# Altium footprint library connector.PcbLib: 13 footprints
Each footprint in its own frame and in the unit in brackets; x right, y up, seen from the top. Pads: shape width x height; smd on the part's side, far side on the other; paste and mask are expansions set on the pad; w line width, h text height; cw(c..) or ccw(c..) is an arc to the next point about the centre after c.
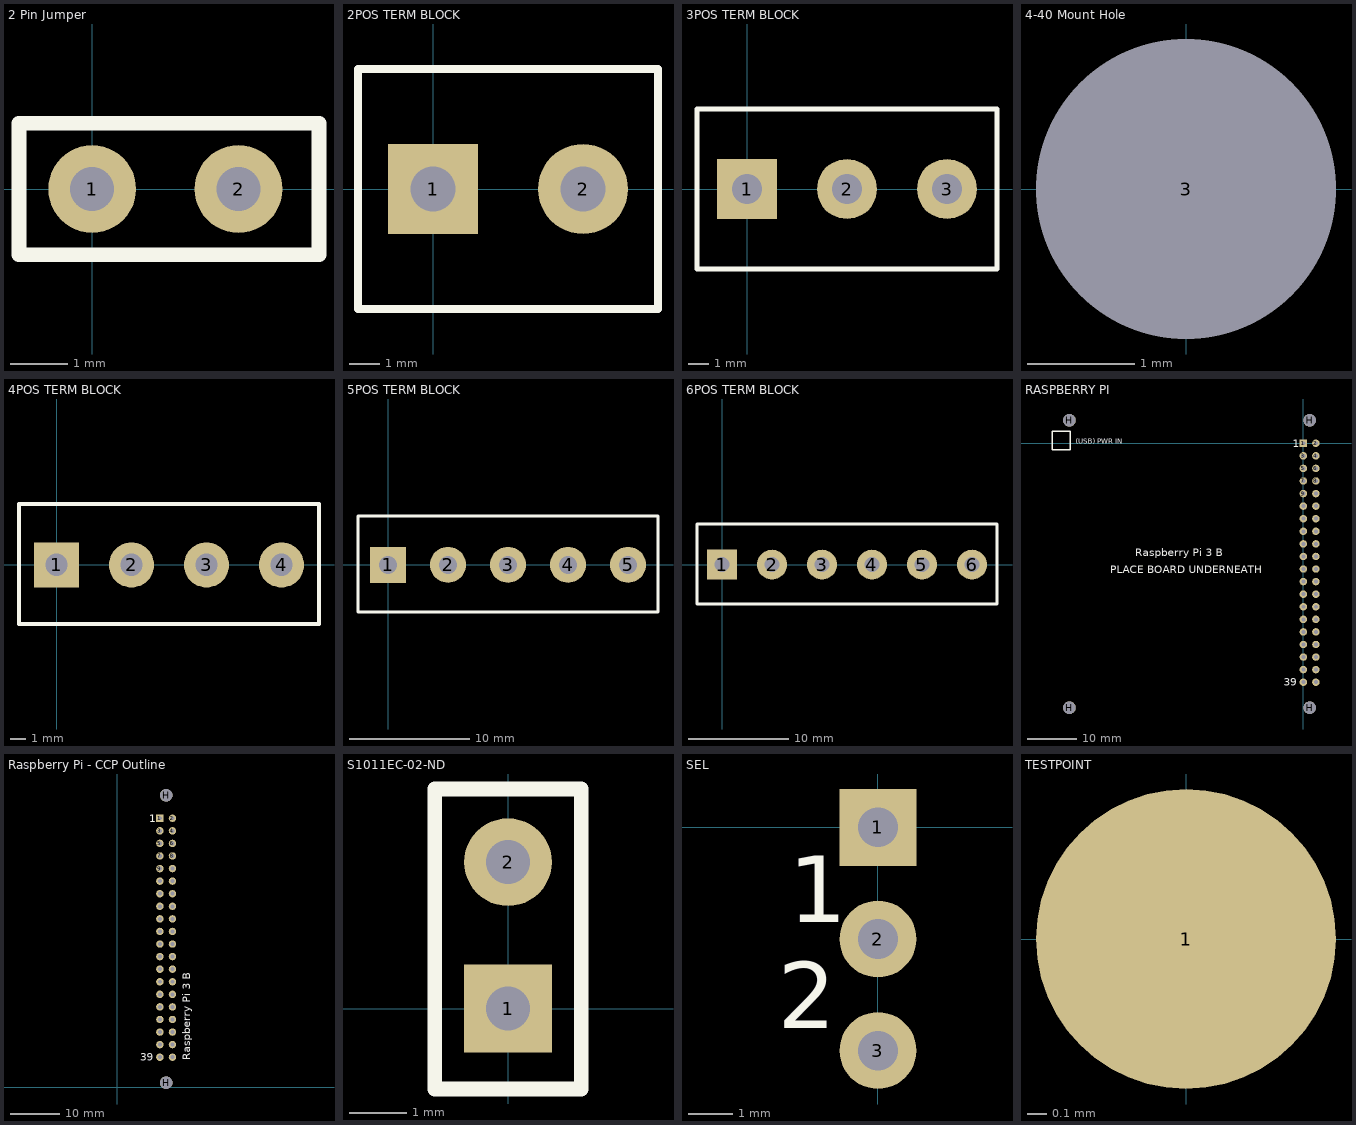
[diagram p0: the footprints below, top view; thin cyan lines are the x and y axes]

## 2 Pin Jumper [mil]
pads (2):
  round 60 hole 30: 1(0,0) 2(100,0)
Top Overlay:
  lines w10: -50,-45 155,-45 155,45 -50,45 -50,-45
3D body "P3EL-P-010-2PinHeader.stp": height 344.06, standoff -92.94, extent -50,-50.75 150,45

## 2POS TERM BLOCK [mm] "5mm Pitch"
height 11.3
pads (2):
  rect 3x3 hole 1.5: 1(0,0)
  round 3 hole 1.5: 2(5,0)
Top Overlay:
  lines w0.254: -2.5,-4 7.5,-4 7.5,4 -2.5,4 -2.5,-4
3D body: height 0.25, standoff 0, extent 0,0 0,0
3D body "P3EL-P-001-2PinScrewTerminal-V2-PCBONLY.stp": height 12.6, standoff -4.3, extent -2.506,-4.572 8.094,4.428

## 3POS TERM BLOCK [mm] "5mm Pitch"
height 11.3
pads (3):
  rect 3x3 hole 1.5: 1(0,0)
  round 3 hole 1.5: 2(5,0) 3(10,0)
Top Overlay:
  lines w0.254: -2.5,-4 12.5,-4 12.5,4 -2.5,4 -2.5,-4
3D body "P3EL-P-002-3PinScrewTerminal.prt.stp": height 12.6, standoff -4.3, extent -3.026,-4.555 12.494,4.445

## 4-40 Mount Hole [mil]
pads (1):
  round 60 hole 110: 3(0,0)

## 4POS TERM BLOCK [mm]
height 11.3
pads (4):
  rect 3x3 hole 1.5: 1(0,0)
  round 3 hole 1.5: 2(5,0) 3(10,0) 4(15,0)
Top Overlay:
  lines w0.254: 17.399,-3.936 -2.5,-3.936 -2.5,4.064 17.399,4.064 ; 17.5,-3.936 17.5,4.064
3D body "P3EL-P-003-4PinScrewTerminal-PCBONLY.stp": height 3.8, standoff -13.1, extent -2.553,-4.555 18.047,4.445

## 5POS TERM BLOCK [mm]
height 11.3
pads (5):
  rect 3x3 hole 1.5: 1(0,0)
  round 3 hole 1.5: 2(5,0) 3(10,0) 4(15,0) 5(20,0)
Top Overlay:
  lines w0.254: -2.5,-3.936 22.5,-3.936 22.5,4.064 -2.5,4.064 -2.5,-3.936

## 6POS TERM BLOCK [mm] "5mm"
height 11.3
pads (6):
  rect 3x3 hole 1.5: 1(0,0)
  round 3 hole 1.5: 2(5,0) 3(10,0) 4(15,0) 5(20,0) 6(25,0)
Top Overlay:
  lines w0.254: 27.5,-3.936 -2.5,-3.936 -2.5,4.064 27.5,4.064 27.5,-3.935
3D body "P3EL-P-005-6PinScrewTerminal-PCBONLY.prt.stp": height 12.87, standoff -4.03, extent -3.108,-4.555 27.492,4.445

## LCD [mm]

## RASPBERRY PI [mm] "2x20 Header with mounting holes"
height 16.8
pads (44):
  rect 1.5x1.5 hole 0.8: 1(0,0)
  round 1.5 hole 0.8: 2(2.54,0) 3(0,-2.54) 4(2.54,-2.54) 5(0,-5.08) 6(2.54,-5.08) 7(0,-7.62) 8(2.54,-7.62) 9(0,-10.16) 10(2.54,-10.16) 11(0,-12.7) 12(2.54,-12.7) 13(0,-15.24) 14(2.54,-15.24) 15(0,-17.78) 16(2.54,-17.78) 17(0,-20.32) 18(2.54,-20.32) 19(0,-22.86) 20(2.54,-22.86) 21(0,-25.4) 22(2.54,-25.4) 23(0,-27.94) 24(2.54,-27.94) 25(0,-30.48) 26(2.54,-30.48) 27(0,-33.02) 28(2.54,-33.02) 29(0,-35.56) 30(2.54,-35.56) 31(0,-38.1) 32(2.54,-38.1) 33(0,-40.64) 34(2.54,-40.64) 35(0,-43.18) 36(2.54,-43.18) 37(0,-45.72) 38(2.54,-45.72) 39(0,-48.26) 40(2.54,-48.26)
  round 2.54 hole 2.54 unplated: H(-47.23,-53.41) H(-47.23,4.64) H(1.27,-53.41) H(1.27,4.64)
Top Overlay:
  lines w0.254: -50.673,-1.27 -50.673,2.413 -47.117,2.413 -47.117,-1.27 -50.673,-1.27
  text "1" at -2.159,-0.762 h1.52
  text "39" at -3.937,-49.022 h1.52
  text "PLACE BOARD UNDERNEATH" at -38.989,-26.289 h1.52
  text "Raspberry Pi 3 B" at -33.909,-22.86 h1.52
  text "(USB) PWR IN" at -45.974,-0.127 h1

## Raspberry Pi - CCP Outline [mm]
pads (42):
  rect 1.5x1.5 hole 0.8: 1(8.636,54.356)
  round 1.5 hole 0.8: 2(11.176,54.356) 3(8.636,51.816) 4(11.176,51.816) 5(8.636,49.276) 6(11.176,49.276) 7(8.636,46.736) 8(11.176,46.736) 9(8.636,44.196) 10(11.176,44.196) 11(8.636,41.656) 12(11.176,41.656) 13(8.636,39.116) 14(11.176,39.116) 15(8.636,36.576) 16(11.176,36.576) 17(8.636,34.036) 18(11.176,34.036) 19(8.636,31.496) 20(11.176,31.496) 21(8.636,28.956) 22(11.176,28.956) 23(8.636,26.416) 24(11.176,26.416) 25(8.636,23.876) 26(11.176,23.876) 27(8.636,21.336) 28(11.176,21.336) 29(8.636,18.796) 30(11.176,18.796) 31(8.636,16.256) 32(11.176,16.256) 33(8.636,13.716) 34(11.176,13.716) 35(8.636,11.176) 36(11.176,11.176) 37(8.636,8.636) 38(11.176,8.636) 39(8.636,6.096) 40(11.176,6.096)
  round 2.54 hole 2.54 unplated: H(9.906,0.946) H(9.906,58.996)
Top Overlay:
  text "Raspberry Pi 3 B" at 14.732,5.461 h1.52
  text "1" at 6.477,53.594 h1.52
  text "39" at 4.699,5.334 h1.52
3D body "RASPBERRY PI 3.STEP": height -0.8, standoff -18.3, extent -44.828,-24.434 13.522,62.566

## S1011EC-02-ND [mil] "2 Pin Jumper"
height 448.82
pads (2):
  rect 60x60 hole 30: 1(0,0)
  round 60 hole 30: 2(0,100)
Top Overlay:
  lines w10: -50,-55 -50,150 50,150 50,-55 -50,-55

## SEL [mm]
pads (3):
  rect 1.75x1.75 hole 0.9: 1(0,0)
  round 1.75 hole 0.9: 2(0,-2.54) 3(0,-5.08)
Top Overlay:
  text "2" at -2.286,-4.572 h1.52
  text "1" at -2.032,-2.159 h1.52

## TESTPOINT [mil]
pads (1):
  round 60 smd: 1(0,0)